# Altium footprint library 9X3.5X5.5-3P.PcbLib: 1 footprints
Each footprint in its own frame and in the unit in brackets; x right, y up, seen from the top. Pads: shape width x height; smd on the part's side, far side on the other; paste and mask are expansions set on the pad; w line width, h text height; cw(c..) or ccw(c..) is an arc to the next point about the centre after c.
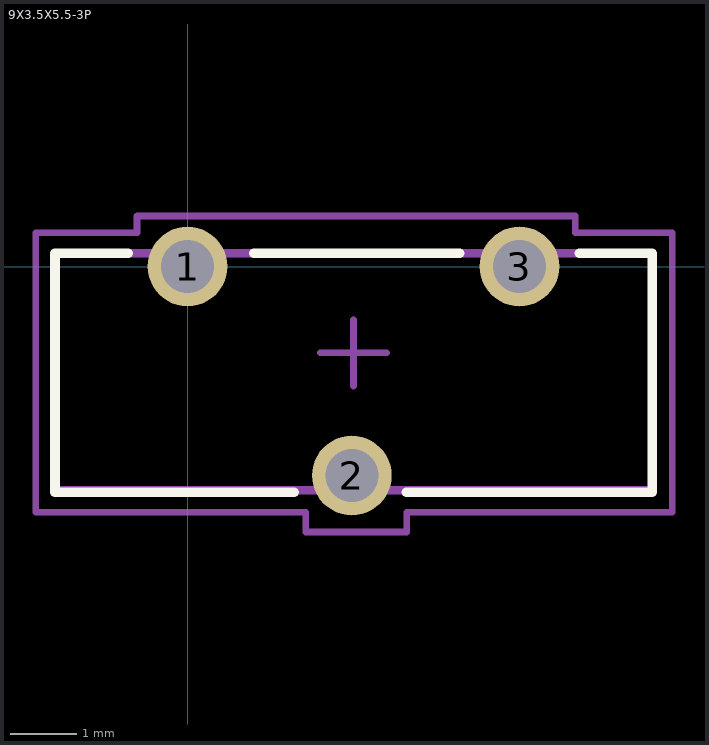
[diagram p0: the footprint, top view; thin cyan lines are the x and y axes]

## 9X3.5X5.5-3P [mm] "Slide Switch DC 6V 300mA"
height 5.5
pads (3):
  round 1.2 hole 0.8: 1(0,0) 2(2.474,-3.149) 3(5,0)
Top Overlay:
  lines w0.15: -0.9,0.2 -2,0.2 -2,-3.4 1.6,-3.4 ; 1,0.2 4.1,0.2 ; 3.3,-3.4 7,-3.4 7,0.2 5.9,0.2
Mechanical 13:
  lines w0.127: -2,-3.369 -2,0.2 7,0.2 7,-3.369 -2,-3.369
Mechanical 15:
  lines w0.1: 2,-1.3 3,-1.3 ; 2.5,-1.8 2.5,-0.8 ; -2.286,-3.7 1.778,-3.7 1.778,-4 3.302,-4 3.302,-3.7 7.3,-3.7 7.3,0.508 5.842,0.508 5.842,0.762 -0.762,0.762 -0.762,0.508 -2.286,0.508 -2.286,-3.7
Mechanical 29:
  lines w0.127: -2,-3.369 7,-3.369 7,0.2 -2,0.2 -2,-3.369
  text ".Designator" at 1.5,-2 h1.52
3D body: height 5, standoff -3, extent -2,-3.369 7,0.2